# Altium schematic symbol library Nguyen Quang Minh.SchLib: 1 symbol
Pins are listed as number, name and electrical type; pins without a type are passive.

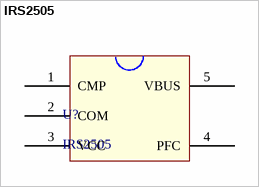
[diagram p0: symbol IRS2505]

## IRS2505
designator U?
footprint IRS2505
pins: 1 CMP, 2 COM, 3 VCC, 4 PFC, 5 VBUS